# Altium footprint library PcbLib2.PcbLib: 2 footprints
Each footprint in its own frame and in the unit in brackets; x right, y up, seen from the top. Pads: shape width x height; smd on the part's side, far side on the other; paste and mask are expansions set on the pad; w line width, h text height; cw(c..) or ccw(c..) is an arc to the next point about the centre after c.
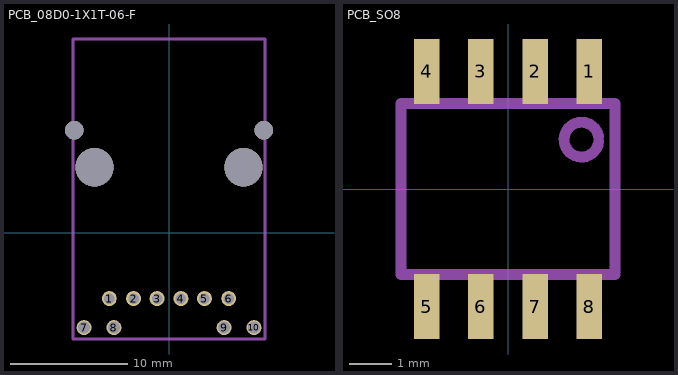
[diagram p0: the footprints below, top view; thin cyan lines are the x and y axes]

## PCB_08D0-1X1T-06-F [mm]
pads (10):
  round 1.27 hole 0.89: 1(-5.08,-5.585) 2(-3.015,-5.585) 3(-1.015,-5.585) 4(1.015,-5.585) 5(3.015,-5.585) 6(5.08,-5.585)
  round 1.27 hole 1.02: 7(-7.23,-8.055) 8(-4.69,-8.055) 9(4.69,-8.055) 10(7.23,-8.055)
via 8.06,8.755 diameter 1.57 hole 1.57
via -8.06,8.755 diameter 1.57 hole 1.57
via 6.35,5.585 diameter 3.25 hole 3.25
via -6.35,5.585 diameter 3.25 hole 3.25
Mechanical 13:
  lines w0.254: -8.155,-9.025 8.155,-9.025 8.155,16.505 -8.155,16.505 -8.155,-9.025
3D body: height 4.34, standoff -0.56, extent -8.85,-7.67 -8.85,-7.67
3D body: height 4.34, standoff -0.56, extent -8.825,-8.275 -8.825,-8.275
3D body: height 13.49, standoff 0, extent -8.155,-9.025 8.155,16.505
3D body: height 4.34, standoff -0.56, extent -2.76,-0.825 -2.76,-0.825
3D body: height 4.34, standoff -0.56, extent -2.76,-0.825 -2.76,-0.825
3D body: height 4.34, standoff -0.56, extent 0.765,6.425 0.765,6.425

## PCB_SO8 [mm]
height 1.75
pads (8):
  rect 0.6x1.52 smd: 1(1.905,2.75) 2(0.635,2.75) 3(-0.635,2.75) 4(-1.905,2.75) 5(-1.905,-2.75) 6(-0.635,-2.75) 7(0.635,-2.75) 8(1.905,-2.75)
Mechanical 13:
  lines w0.254: 2.12,1.228 ccw(c1.72,1.155) 2.125,1.119 ; -2.5,-2 -2.5,2 2.5,2 2.5,-2 -2.5,-2
3D body "CircuitWorks-SO-8.SLDPRT": height 1.45, standoff 0, extent -2.442,-2.884 2.46,2.894